# EAGLE library part JTAG-MINI (library RocketControlBoard)
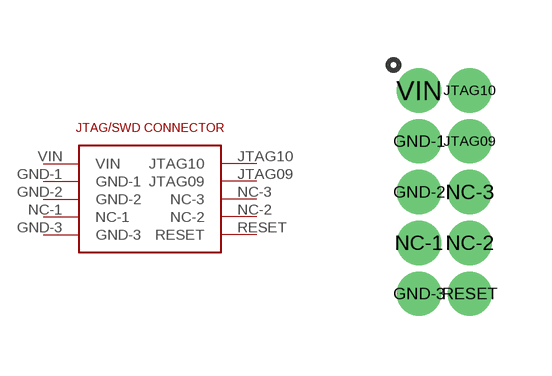
[diagram p1: symbol with the pads of JTAG-MINI; footprint JTAG-MINI]

Designator prefix -

## JTAG-MINI  [JTAG-MINI]
GND-1  GND-1
GND-2  GND-2
GND-3  GND-3
JTAG09  JTAG09
JTAG10  JTAG10
NC-1  NC-1
NC-2  NC-2
NC-3  NC-3
RESET  RESET
VIN  VIN

## Footprint JTAG-MINI (pad centres in mm)
drill 0.6: GND-1 0.635,4.445; GND-2 0.635,3.175; GND-3 0.635,0.635; JTAG09 1.905,4.445; JTAG10 1.905,5.715; NC-1 0.635,1.905; NC-2 1.905,1.905; NC-3 1.905,3.175; RESET 1.905,0.635; VIN 0.635,5.715